# Altium footprint library PcbLib1.PcbLib: 4 footprints
Each footprint in its own frame and in the unit in brackets; x right, y up, seen from the top. Pads: shape width x height; smd on the part's side, far side on the other; paste and mask are expansions set on the pad; w line width, h text height; cw(c..) or ccw(c..) is an arc to the next point about the centre after c.
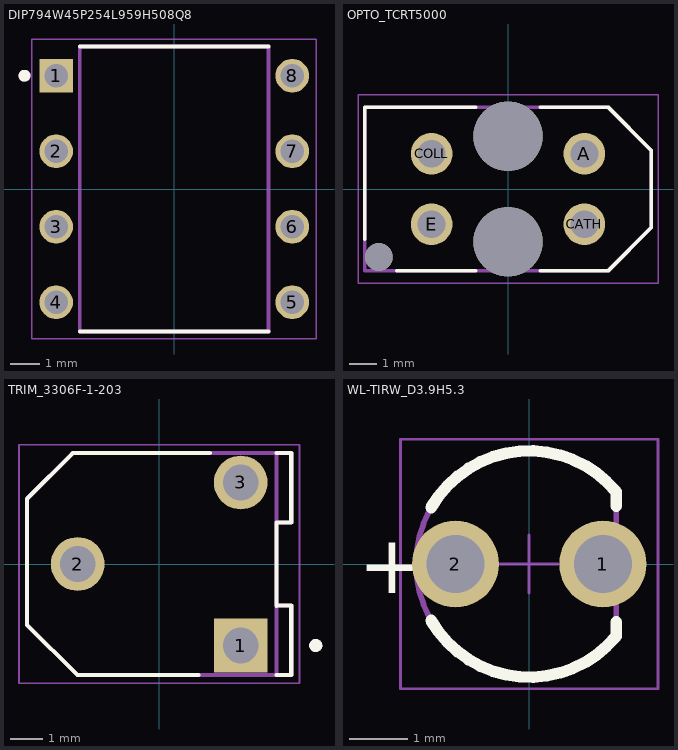
[diagram p0: the footprints below, top view; thin cyan lines are the x and y axes]

## DIP794W45P254L959H508Q8 [mm]
pads (8):
  rect 1.13x1.13 hole 0.78: 1(-3.97,3.81)
  round 1.13 hole 0.78: 2(-3.97,1.27) 3(-3.97,-1.27) 4(-3.97,-3.81) 5(3.97,-3.81) 6(3.97,-1.27) 7(3.97,1.27) 8(3.97,3.81)
Top Overlay:
  circle w0.2: c-5.035,3.81 r0.1
  lines w0.127: -3.175,-4.795 3.175,-4.795 ; -3.175,4.795 3.175,4.795
Mechanical 13:
  circle w0.2: c-5.035,3.81 r0.1
  lines w0.127: -3.175,-4.795 -3.175,4.795 3.175,4.795 3.175,-4.795 -3.175,-4.795
Mechanical 15:
  lines w0.05: -4.785,-5.045 -4.785,5.045 4.785,5.045 4.785,-5.045 -4.785,-5.045
3D body "LM358P.step": height 5.1, standoff -2.2, extent -4.13,-5.127 4.13,4.873

## OPTO_TCRT5000 [mm]
pads (7):
  round 1.5 hole 1: A(2.75,1.27) CATH(2.75,-1.27) COLL(-2.75,1.27) E(-2.75,-1.27)
  round 1 hole 1 unplated: ""(-4.65,-2.45)
  round 2.5 hole 2.5 unplated: ""(0,-1.9) ""(0,1.9)
Top Overlay:
  lines w0.127: -5.15,-1.8 -5.15,2.95 -1.17,2.95 ; -4,-2.95 -1.17,-2.95 ; 1.17,-2.95 3.6,-2.95 5.15,-1.4 5.15,1.4 3.6,2.95 1.17,2.95
Mechanical 13:
  lines w0.127: -5.15,-2.95 -5.15,2.95 3.6,2.95 5.15,1.4 5.15,-1.4 3.6,-2.95 -5.15,-2.95
Mechanical 15:
  lines w0.05: -5.4,-3.4 -5.4,3.4 5.4,3.4 5.4,-3.4 -5.4,-3.4
3D body "TCRT5000.STEP": height 6.72, standoff -4.28, extent -4.973,-3.302 5.227,3.498

## TRIM_3306F-1-203 [mm]
pads (3):
  rect 1.65x1.65 hole 1.1: 1(2.5,-2.5)
  round 1.65 hole 1.1: 2(-2.5,0) 3(2.5,2.5)
Top Overlay:
  circle w0.2: c4.8,-2.5 r0.1
  lines w0.127: 1.2,-3.405 -2.51,-3.405 -4.05,-1.87 -4.05,2 -2.65,3.405 1.55,3.405 ; 3.6,-3.405 4.05,-3.405 4.05,-1.27 3.6,-1.27 ; 3.6,-1.28 3.6,-1.27 ; 3.6,3.405 4.05,3.405 4.05,1.27 3.6,1.27 3.6,-1.27
Mechanical 13:
  circle w0.2: c4.8,-2.5 r0.1
  lines w0.127: 3.6,-3.405 -2.51,-3.405 -4.05,-1.87 -4.05,2 -2.65,3.405 3.6,3.405 ; 3.6,-3.405 3.6,-1.27 ; 3.6,-3.405 4.05,-3.405 4.05,-1.27 3.6,-1.27 ; 3.6,-1.27 3.6,1.27 ; 3.6,1.27 3.6,3.405 ; 3.6,1.27 4.05,1.27 4.05,3.405 3.6,3.405
Mechanical 15:
  lines w0.05: -4.3,-3.655 4.3,-3.655 4.3,3.655 -4.3,3.655 -4.3,-3.655
3D body "Trimmer Pot.STEP": height 7.62, standoff -3.04, extent -3.375,-3.405 4.876,3.405

## WL-TIRW_D3.9H5.3 [mm] "THT Infrared Round Waterclear, body diameter 3.9mm"
height 5.3
pads (2):
  round 1.5 hole 1: 1(1.27,0) 2(-1.27,0)
Top Overlay:
  lines w0.2: -1.69,-0.973 ccw(c0,0) 1.5,-1.245 1.5,-1 ; -1.69,0.973 cw(c0,0) 1.5,1.245 1.5,1
  text "+" at -2.95,-0.5 h1.02
Mechanical 11:
  lines w0.1: 1.5,-1.245 cw(c0,0) 1.5,1.245 ; 1.5,-1.245 1.5,1.245
  text ".Designator" at -1.15,-0.475 h1
Mechanical 13:
  lines w0.1: 1.5,-1.245 cw(c0,0) 1.5,1.245 ; 1.5,-1.245 1.5,1.245
Mechanical 15:
  lines w0.05: -0.5,0 0.5,0 ; 0,-0.5 0,0.5 ; -2.22,-2.15 2.22,-2.15 2.22,2.15 -2.22,2.15 -2.22,-2.15
3D body "154003xxx.stp": height 5.3, standoff -26.4, extent -1.95,-1.949 1.62,1.949